# Altium integrated library IR Discrete IGBT.IntLib: 141 symbols (part 3 of 3)
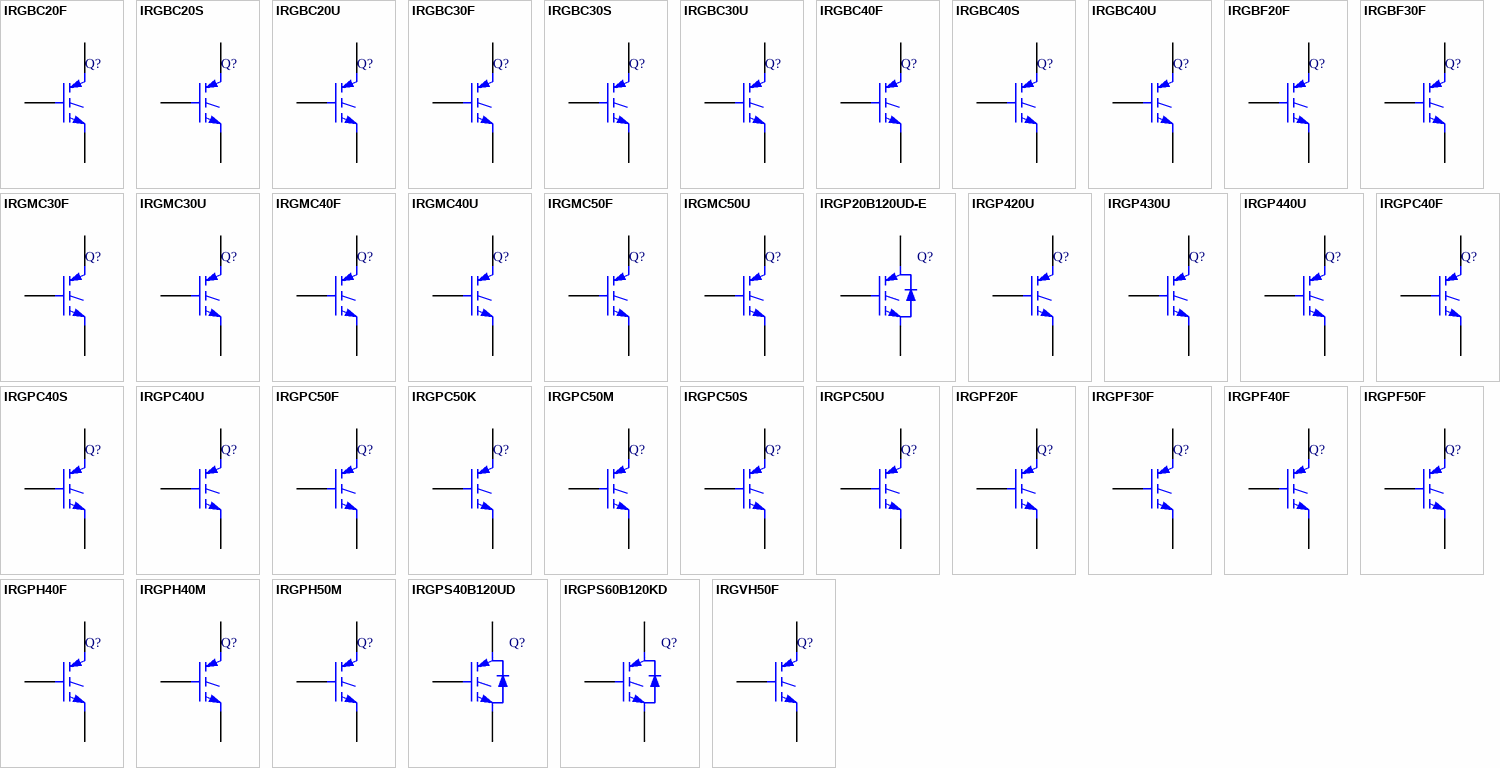
[diagram p5: symbols IRGBC20F to IRGVH50F]

## IRGPF40F
designator Q?
Insulated Gate Bipolar Transistor; Note: Pin 2 (collector) is electrically connected to the BASE; Published: 8-Jun-2000; LatestRevisionDate: 17-Sep-2003; LatestRevisionNote: SIM Port Mapping Fixed.; DatasheetVersion: PD-9.770A; PackageVersion: Aug-1997; PackageReference: TO-247AC; Publisher: Altium Limited; PackageDescription: SIP with Mounting Hole; 3 Leads; Body 20 x 15.6 x 5 mm (typ); Pitch 5.45 mm; Code_JEDEC: TO-247-AC; ComponentLink1Description: Manufacturer Link; ComponentLink1URL: http://www.irf.com/
footprint TO-247AC (SIP with Mounting Hole; 3 Leads; Body 20 x 15.6 x 5 mm (typ); Pitch 5.45 mm)
simulation model IRGPF40F (SUBCKT)
pins: 1 G, 2 C, 3 E

## IRGPF50F
designator Q?
Insulated Gate Bipolar Transistor; Note: Pin 2 (collector) is electrically connected to the BASE; Published: 8-Jun-2000; LatestRevisionDate: 17-Sep-2003; LatestRevisionNote: SIM Port Mapping Fixed.; DatasheetVersion: PD-9.767A; PackageVersion: Aug-1997; PackageReference: TO-247AC; Publisher: Altium Limited; PackageDescription: SIP with Mounting Hole; 3 Leads; Body 20 x 15.6 x 5 mm (typ); Pitch 5.45 mm; Code_JEDEC: TO-247-AC; ComponentLink1Description: Manufacturer Link; ComponentLink1URL: http://www.irf.com/
footprint TO-247AC (SIP with Mounting Hole; 3 Leads; Body 20 x 15.6 x 5 mm (typ); Pitch 5.45 mm)
simulation model IRGPF50F (SUBCKT)
pins: 1 G, 2 C, 3 E

## IRGPH40F
designator Q?
Insulated Gate Bipolar Transistor; Note: Pin 2 (collector) is electrically connected to the BASE; Published: 8-Jun-2000; LatestRevisionDate: 17-Sep-2003; LatestRevisionNote: SIM Port Mapping Fixed.; DatasheetVersion: PD-9.764; PackageVersion: Aug-1997; PackageReference: TO-247AC; Publisher: Altium Limited; PackageDescription: SIP with Mounting Hole; 3 Leads; Body 20 x 15.6 x 5 mm (typ); Pitch 5.45 mm; Code_JEDEC: TO-247-AC; ComponentLink1Description: Manufacturer Link; ComponentLink1URL: http://www.irf.com/
footprint TO-247AC (SIP with Mounting Hole; 3 Leads; Body 20 x 15.6 x 5 mm (typ); Pitch 5.45 mm)
simulation model IRGPH40F (SUBCKT)
pins: 1 G, 2 C, 3 E

## IRGPH40M
designator Q?
Insulated Gate Bipolar Transistor; Note: Pin 2 (collector) is electrically connected to the BASE; Published: 8-Jun-2000; LatestRevisionDate: 17-Sep-2003; LatestRevisionNote: SIM Port Mapping Fixed.; DatasheetVersion: PD-9.1029A; PackageVersion: Aug-1997; PackageReference: TO-247AC; Publisher: Altium Limited; PackageDescription: SIP with Mounting Hole; 3 Leads; Body 20 x 15.6 x 5 mm (typ); Pitch 5.45 mm; Code_JEDEC: TO-247-AC; ComponentLink1Description: Manufacturer Link; ComponentLink1URL: http://www.irf.com/
footprint TO-247AC (SIP with Mounting Hole; 3 Leads; Body 20 x 15.6 x 5 mm (typ); Pitch 5.45 mm)
simulation model IRGPH40M (SUBCKT)
pins: 1 G, 2 C, 3 E

## IRGPH50M
designator Q?
Insulated Gate Bipolar Transistor; Note: Pin 2 (collector) is electrically connected to the BASE; Published: 8-Jun-2000; LatestRevisionDate: 17-Sep-2003; LatestRevisionNote: SIM Port Mapping Fixed.; DatasheetVersion: PD-9.1030; PackageVersion: Aug-1997; PackageReference: TO-247AC; Publisher: Altium Limited; PackageDescription: SIP with Mounting Hole; 3 Leads; Body 20 x 15.6 x 5 mm (typ); Pitch 5.45 mm; Code_JEDEC: TO-247-AC; ComponentLink1Description: Manufacturer Link; ComponentLink1URL: http://www.irf.com/
footprint TO-247AC (SIP with Mounting Hole; 3 Leads; Body 20 x 15.6 x 5 mm (typ); Pitch 5.45 mm)
simulation model IRGPH50M (SUBCKT)
pins: 1 G, 2 C, 3 E

## IRGPS40B120UD
designator Q?
Insulated Gate Bipolar Transistor with Ultrafast Soft Recovery Diode; Note: Pin 4 is electrically connected to Pin 2; Published: 17-Sep-2003; DatasheetVersion: 17-Jan-2002; PackageReference: Super-247; Publisher: Altium Limited; PackageDescription: SIP; 3 Leads; Body 20.3 x 15.6 x 5 mm (typ); Pitch 5.45 mm; ComponentLink1Description: Manufacturer Link; ComponentLink1URL: http://www.irf.com/; ComponentLink2Description: Datasheet; ComponentLink2URL: http://www.irf.com/product-info/datasheets/data/IRGPS40B120UD.pdf
footprint SUPER-247 (SIP; 3 Leads; Body 20.3 x 15.6 x 5 mm (typ); Pitch 5.45 mm)
pins: 1 G, 2 C, 3 E

## IRGPS60B120KD
designator Q?
Insulated Gate Bipolar Transistor with Ultrafast Soft Recovery Diode; Note: Pin 4 is electrically connected to Pin 2; Published: 17-Sep-2003; DatasheetVersion: 17-Jan-2002; PackageReference: Super-247; Publisher: Altium Limited; PackageDescription: SIP; 3 Leads; Body 20.3 x 15.6 x 5 mm (typ); Pitch 5.45 mm; ComponentLink1Description: Manufacturer Link; ComponentLink1URL: http://www.irf.com/; ComponentLink2Description: Datasheet; ComponentLink2URL: http://www.irf.com/product-info/datasheets/data/IRGPS60B120KD.pdf
footprint SUPER-247 (SIP; 3 Leads; Body 20.3 x 15.6 x 5 mm (typ); Pitch 5.45 mm)
simulation model IRGPS60B120KD (SUBCKT)
pins: 1 G, 2 C, 3 E

## IRGVH50F
designator Q?
Insulated Gate Bipolar Transistor; Published: 8-Jun-2000; LatestRevisionDate: 17-Jul-2002; LatestRevisionNote: Re-released for DXP Platform.; DatasheetVersion: PD-9.928; PackageReference: TO-258AA; Publisher: Altium Limited; PackageDescription: TO, Thru-Hole, Vertical, Heatsink Mounted; 3 In-Line Leads; Pitch 5.08 mm; ComponentLink1Description: Manufacturer Link; ComponentLink1URL: http://www.irf.com/; ComponentLink2Description: Datasheet; ComponentLink2URL: http://www.irf.com/product-info/datasheets/data/irgvh50f.pdf
footprint TO-258AA (TO, Thru-Hole, Vertical, Heatsink Mounted; 3 In-Line Leads; Pitch 5.08 mm)
simulation model IRGVH50F (SUBCKT)
pins: 1 C, 2 E, 3 G